# Altium schematic symbol library Inductors & Transformers.SchLib: 1 symbol
Pins are listed as number, name and electrical type; pins without a type are passive.

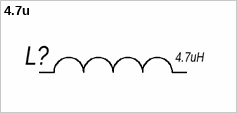
[diagram p0: symbol 4.7u]

## 4.7u
designator L?, comment 4.7uH
Катушка индуктивности 4.7 мкГн
pins: 1, 2